# Altium footprint library Johanson Technology RF Antennas.PcbLib: 1 footprints
Each footprint in its own frame and in the unit in brackets; x right, y up, seen from the top. Pads: shape width x height; smd on the part's side, far side on the other; paste and mask are expansions set on the pad; w line width, h text height; cw(c..) or ccw(c..) is an arc to the next point about the centre after c.
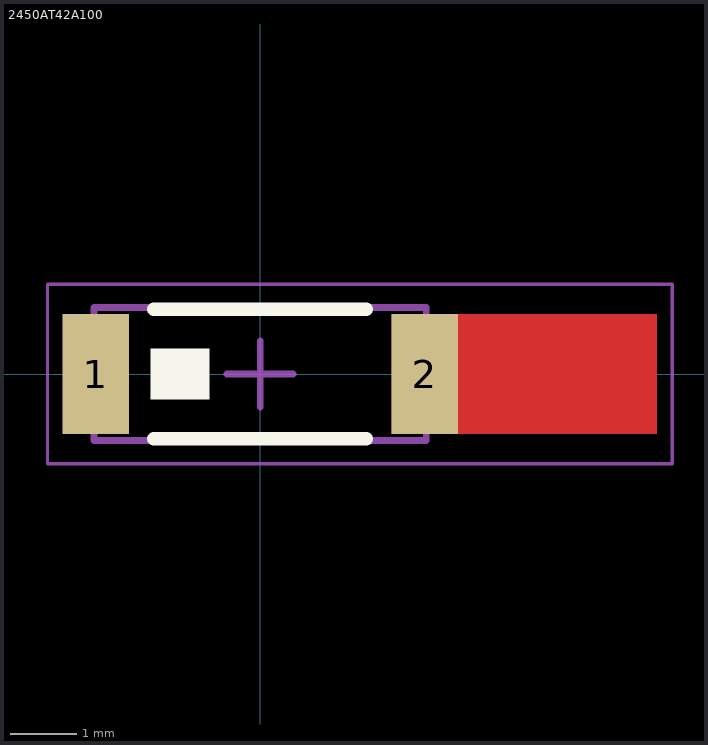
[diagram p0: the footprint, top view; thin cyan lines are the x and y axes]

## 2450AT42A100 [mm] "2450AT42A100 Chip Antenna, Body Size 5.00x2.00mm, 2-Lead"
height 1.3
pads (2):
  rect 1x1.8 smd: 1(-2.475,0) 2(2.475,0)
Top Layer:
  rectangle: 1.975,-0.9 5.975,0.9
Top Overlay:
  rectangle: -1.651,-0.381 -0.762,0.381
  lines w0.2: -1.6,-0.975 1.6,-0.975 ; -1.6,0.975 1.6,0.975
Mechanical 13:
  lines w0.1: -2.5,-1 -2.5,1 2.5,1 2.5,-1 -2.5,-1
Mechanical 15:
  lines w0.05: -3.2,-1.35 -3.2,1.35 6.2,1.35 6.2,-1.35 -3.2,-1.35
  lines w0.1: -0.5,0 0.5,0 ; 0,-0.5 0,0.5
3D body: height 1.3, standoff 0, extent -2,-1 2,1
3D body: height 1.3, standoff 0, extent -2.5,-1 -2,1
3D body: height 1.3, standoff 0, extent 2,-1 2.5,1